# Altium footprint library PCB - CONNECTOR - JST - JST BM06B-SURS-TF.PCBLIB: 1 footprints
Each footprint in its own frame and in the unit in brackets; x right, y up, seen from the top. Pads: shape width x height; smd on the part's side, far side on the other; paste and mask are expansions set on the pad; w line width, h text height; cw(c..) or ccw(c..) is an arc to the next point about the centre after c.
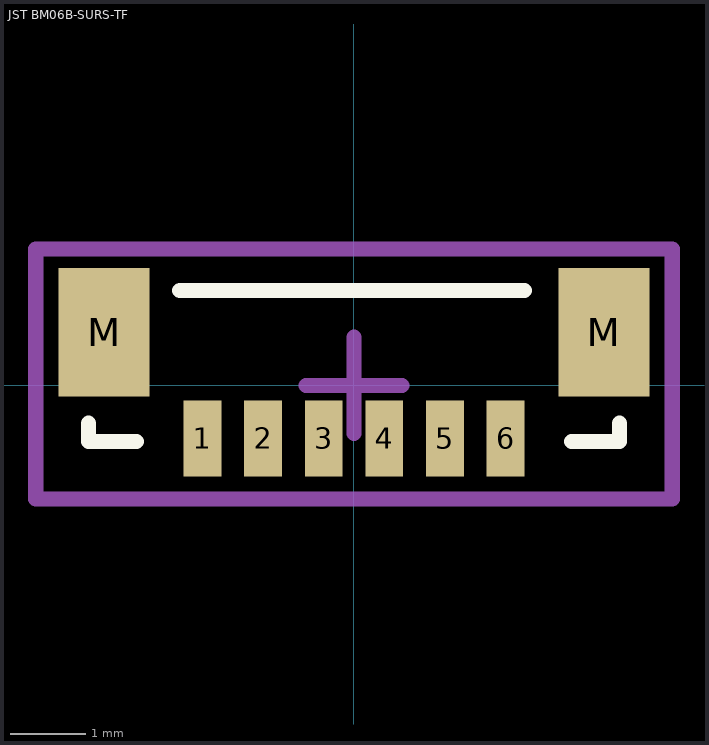
[diagram p0: the footprint, top view; thin cyan lines are the x and y axes]

## JST BM06B-SURS-TF [mm] "1.0mm pitch/Disconnectable Crimp style connector"
height 3.95
pads (8):
  rect 0.5x1 smd: 1(-2,-0.7) 2(-1.2,-0.7) 3(-0.4,-0.7) 4(0.4,-0.7) 5(1.2,-0.7) 6(2,-0.7)
  rect 1.2x1.7 smd: M(-3.3,0.7) M(3.3,0.7)
Top Overlay:
  lines w0.2: -3.505,-0.5 -3.505,-0.741 -2.87,-0.741 ; -2.3,1.25 2.25,1.25 ; 2.87,-0.741 3.505,-0.741 3.505,-0.5
Mechanical 15:
  lines w0.2: -0.635,0 0.635,0 ; 0,-0.635 0,0.635 ; -4.2,-1.5 -4.2,1.8 4.2,1.8 4.2,-1.5 -4.2,-1.5
3D body "JST BM06B-SURS-TF.step": height 2.75, standoff 0, extent -3.5,-1.05 3.5,1.2